# EAGLE library part RS485 (library 2021-07-02 OrangeHat Library)
RS485 TRANSEIVER
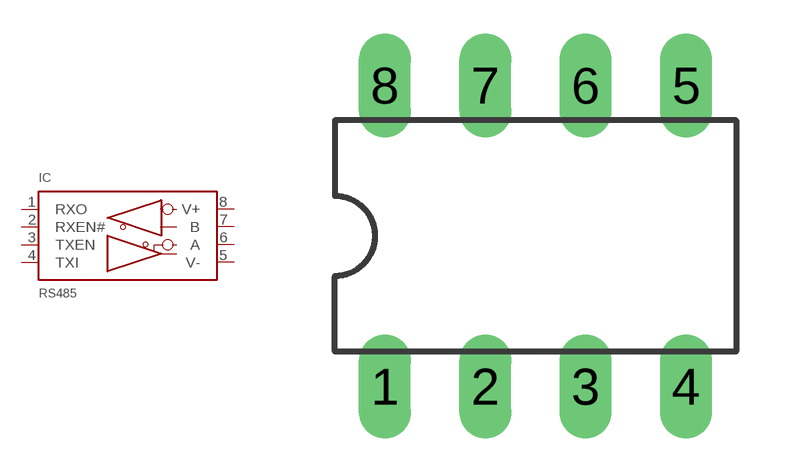
[diagram p6: symbol with the pads of DIL08; footprint DIL08]

Designator prefix IC

## RS485 (MPN: MAX481CPA+; OC_FARNELL: unknown; OC_NEWARK: 99K3445)  [DIL08]
1  RXO  out
2  RXEN#  in
3  TXEN  in
4  TXI  in
5  V-
6  A  pas
7  B  pas
8  V+

## Footprint DIL08 (pad centres in mm)
Dual In Line Package
drill 0.813 long: 1 -3.81,-3.81; 2 -1.27,-3.81; 3 1.27,-3.81; 4 3.81,-3.81; 5 3.81,3.81; 6 1.27,3.81; 7 -1.27,3.81; 8 -3.81,3.81